# Altium footprint library Package_DFN_QFN.PcbLib: 1 footprints
Each footprint in its own frame and in the unit in brackets; x right, y up, seen from the top. Pads: shape width x height; smd on the part's side, far side on the other; paste and mask are expansions set on the pad; w line width, h text height; cw(c..) or ccw(c..) is an arc to the next point about the centre after c.
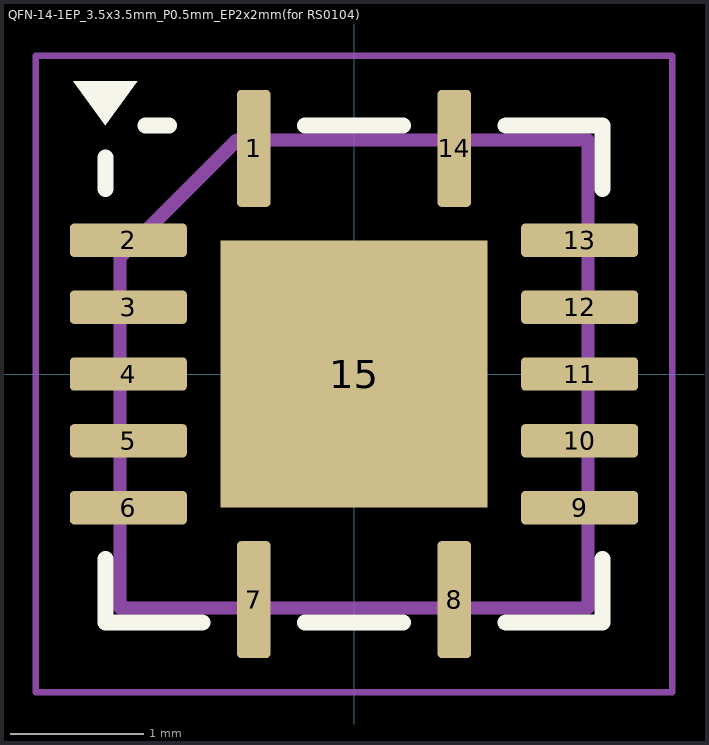
[diagram p0: the footprint, top view; thin cyan lines are the x and y axes]

## QFN-14-1EP_3.5x3.5mm_P0.5mm_EP2x2mm(for RS0104) [mm]
pads (15):
  rrect25% 0.25x0.875 smd: 1(-0.75,1.687) 7(-0.75,-1.687) 8(0.75,-1.687) 14(0.75,1.687)
  rrect25% 0.875x0.25 smd: 2(-1.687,1) 3(-1.687,0.5) 4(-1.687,0) 5(-1.687,-0.5) 6(-1.687,-1) 9(1.687,-1) 10(1.687,-0.5) 11(1.687,0) 12(1.687,0.5) 13(1.687,1)
  rect 2x2 smd: 15(0,0)
Top Overlay:
  region: -2.1,2.19 -1.62,2.19 -1.86,1.86
  lines w0.12: -1.86,-1.385 -1.86,-1.86 -1.135,-1.86 ; -1.86,1.385 -1.86,1.62 ; -1.56,1.86 -1.385,1.86 ; -0.365,-1.86 0.365,-1.86 ; -0.365,1.86 0.365,1.86 ; 1.135,-1.86 1.86,-1.86 1.86,-1.385 ; 1.135,1.86 1.86,1.86 1.86,1.385
Mechanical 13:
  lines w0.1: -1.75,-1.75 -1.75,0.875 -0.875,1.75 1.75,1.75 1.75,-1.75 -1.75,-1.75
Mechanical 15:
  lines w0.05: -2.38,-2.38 2.38,-2.38 2.38,2.38 -2.38,2.38 -2.38,-2.38
3D body "QFN50P350X350X80_HS-15N.step": height 0.8, standoff 0, extent -1.8,-1.8 1.8,1.8